# Altium footprint library Leadless.PcbLib: 77 footprints (part 5 of 5)
Each footprint in its own frame and in the unit in brackets; x right, y up, seen from the top. Pads: shape width x height; smd on the part's side, far side on the other; paste and mask are expansions set on the pad; w line width, h text height; cw(c..) or ccw(c..) is an arc to the next point about the centre after c.
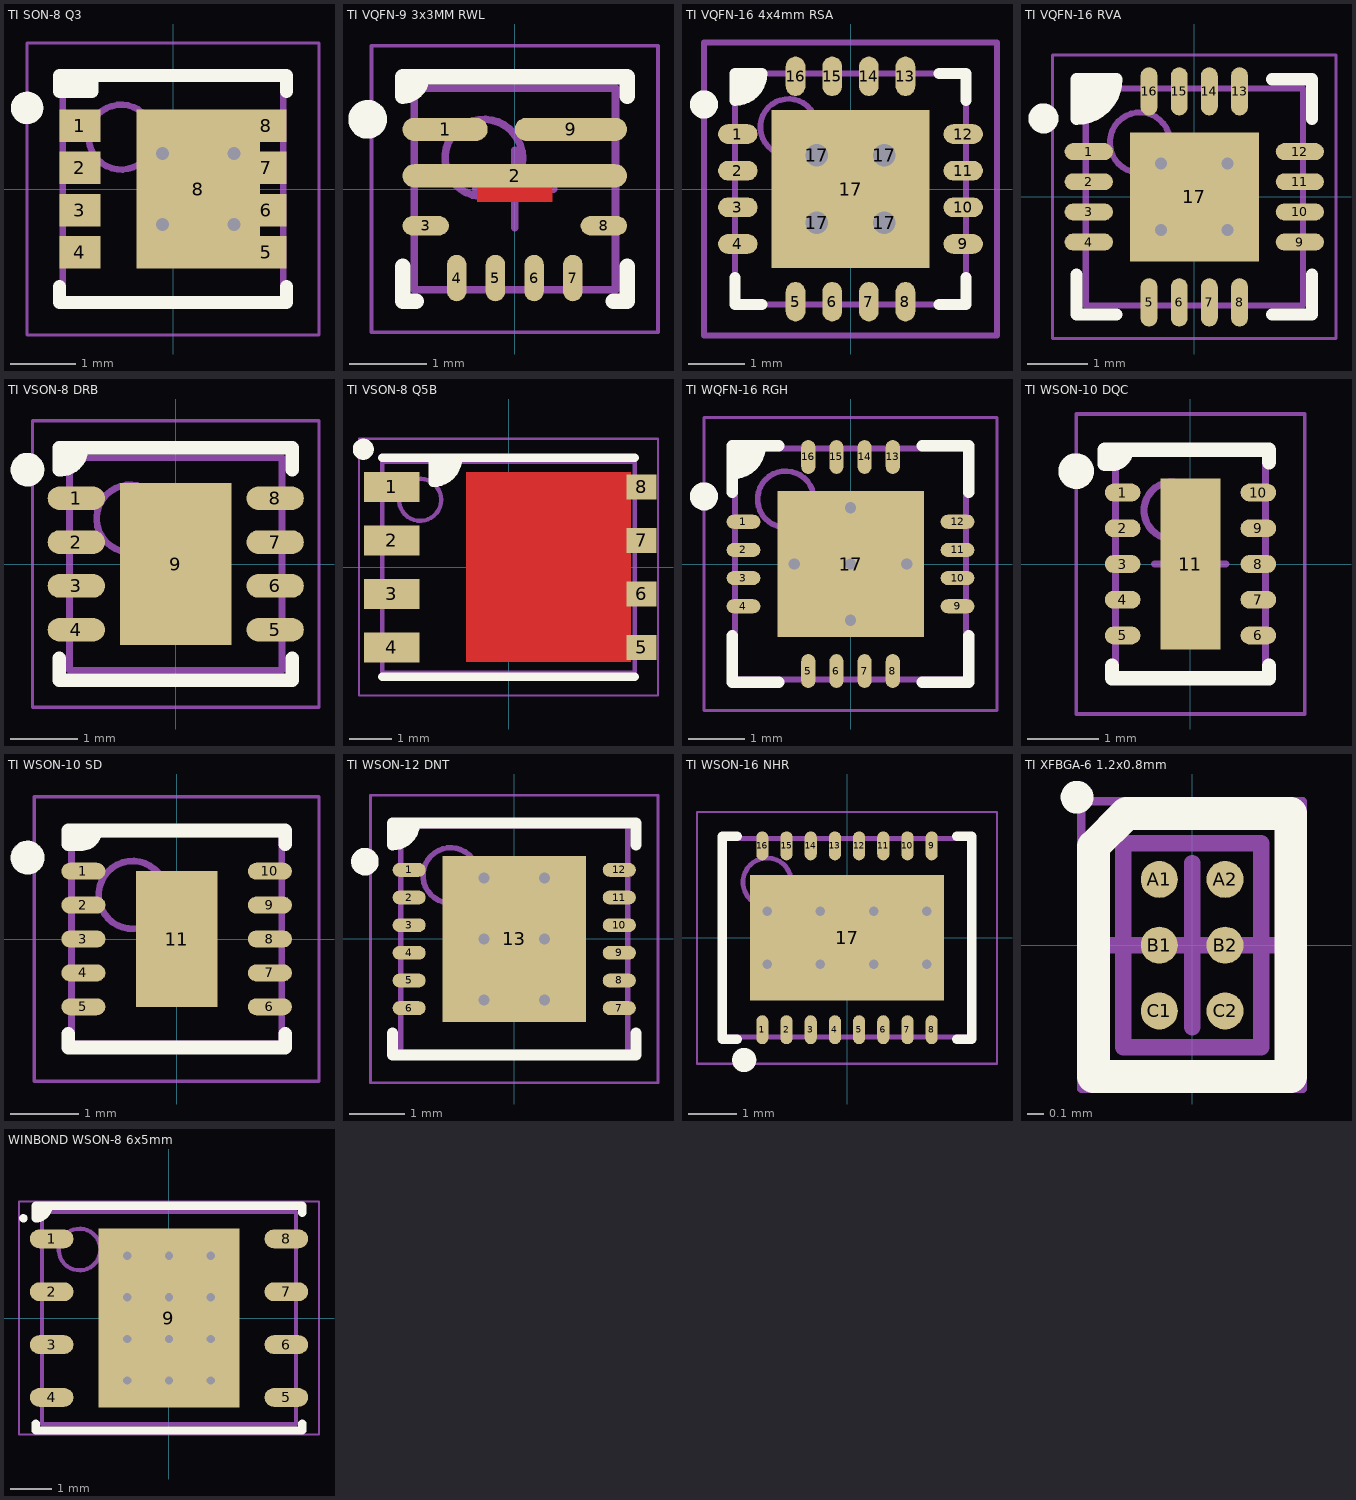
[diagram p4: the footprints below, top view; thin cyan lines are the x and y axes]

## TI SON-8 Q3 [mm] "SON, 8-Leads, Body 3.30x3.30mm, Pitch 0.65mm, Thermal Pad 1.90x2.45mm, IPC Medium Density"
height 1.1
pads (9):
  rect 0.63x0.5 smd paste-3: 1(-1.435,0.975) 2(-1.435,0.325) 3(-1.435,-0.325) 4(-1.435,-0.975) 5(1.435,-0.975) 6(1.435,-0.325) 7(1.435,0.325) 8(1.435,0.975)
  rect 1.9x2.45 smd paste-3: 8(0.39,0)
via -0.16,0.55 diameter 0.5 hole 0.2
via 0.94,0.55 diameter 0.5 hole 0.2
via -0.16,-0.55 diameter 0.5 hole 0.2
via 0.94,-0.55 diameter 0.5 hole 0.2
Top Overlay:
  circle w0.25: c-2.25,1.25 r0.125
  rectangle: -1.75,1.5 -1.25,1.75
  lines w0.2: -1.75,-1.5 -1.75,-1.75 1.75,-1.75 1.75,-1.5 ; -1.25,1.75 -1.25,1.5 -1.75,1.5 -1.75,1.75 1.75,1.75 1.75,1.5
Top Paste:
  rectangle: -0.46,0.125 0.985,1.27
  rectangle: -0.46,-1.27 0.985,-0.125
  rectangle: 1.21,0.82 1.66,1.13
  rectangle: 1.21,-0.48 1.66,-0.17
  region: -1.21,-0.17 -1.66,-0.17 -1.66,-0.48 -1.21,-0.48
  region: -1.21,1.13 -1.66,1.13 -1.66,0.82 -1.21,0.82
  region: -1.21,0.48 -1.66,0.48 -1.66,0.17 -1.21,0.17
  rectangle: 1.21,0.17 1.66,0.48
  region: -1.21,-0.82 -1.66,-0.82 -1.66,-1.13 -1.21,-1.13
  rectangle: 1.21,-1.13 1.66,-0.82
Mechanical 13:
  circle w0.1: c-0.8,0.8 r0.5
  lines w0.1: -1.7,-1.7 -1.7,1.7 1.7,1.7 1.7,-1.7 -1.7,-1.7
Mechanical 15:
  lines w0.05: -2.25,-2.25 -2.25,2.25 2.25,2.25 2.25,-2.25 -2.25,-2.25
  lines w0.1: -0.5,0 0.5,0 ; 0,-0.5 0,0.5
3D body "TI SON-8 Q3.step": height 1.1, standoff 0, extent -1.71,-1.7 1.71,1.7

## TI VQFN-9 3x3MM RWL [mm] "VQFN, 14-Leads, Body 2.50x2.50mm, Pitch 0.50mm/0.47mm, IPC Medium Density"
height 1
pads (9):
  oval 1.1x0.3 smd: 1(-0.9,0.77)
  oval 2.9x0.3 smd: 2(0,0.17)
  oval 0.6x0.25 smd: 3(-1.15,-0.475) 8(1.15,-0.475)
  oval 0.25x0.6 smd: 4(-0.75,-1.15) 5(-0.25,-1.15) 6(0.25,-1.15) 7(0.75,-1.15)
  oval 1.45x0.3 smd: 9(0.725,0.77)
Top Layer:
  rectangle: -0.487,-0.17 0.487,0.1
Top Overlay:
  circle w0.25: c-1.9,0.9 r0.125
  region: -1.2,1.45 -1.45,1.45 -1.45,1.2
  lines w0.2: -1.45,-1 -1.45,-1.45 -1.275,-1.45 ; -1.2,1.45 cw(c-1.45,1.45) -1.45,1.2 -1.45,1.45 1.45,1.45 1.45,1.2 ; 1.275,-1.45 1.45,-1.45 1.45,-1
Mechanical 13:
  circle w0.1: c-0.4,0.4 r0.5
  lines w0.1: -1.3,-1.3 -1.3,1.3 1.3,1.3 1.3,-1.3 -1.3,-1.3
Mechanical 15:
  lines w0.05: -1.85,-1.85 -1.85,1.85 1.85,1.85 1.85,-1.85 -1.85,-1.85
  lines w0.1: -0.5,0 0.5,0 ; 0,-0.5 0,0.5
3D body: height 1, standoff 0.01, extent -1.3,-1.3 1.3,1.3

## TI VQFN-16 4x4mm RSA [mm] "QFN, 16-Leads, Body 4.1x4.1mm (max), Pitch 0.65mm, IPC Medium Density"
height 1
pads (21):
  oval 0.7x0.35 smd: 1(-2,0.975) 2(-2,0.325) 3(-2,-0.325) 4(-2,-0.975) 9(2,-0.975) 10(2,-0.325) 11(2,0.325) 12(2,0.975)
  oval 0.35x0.7 smd: 5(-0.975,-2) 6(-0.325,-2) 7(0.325,-2) 8(0.975,-2) 13(0.975,2) 14(0.325,2) 15(-0.325,2) 16(-0.975,2)
  round 0.8 hole 0.4 unplated: 17(-0.6,-0.6) 17(-0.6,0.6) 17(0.6,-0.6) 17(0.6,0.6)
  rect 2.8x2.8 smd: 17(0,0)
Top Overlay:
  circle w0.25: c-2.6,1.5 r0.125
  region: -2.05,2.05 -1.575,2.05 -1.575,1.925 -1.9,1.6 -2.05,1.6
  lines w0.2: -2.05,-1.575 -2.05,-2.05 -1.575,-2.05 ; 1.575,-2.05 2.05,-2.05 2.05,-1.575 ; 1.575,2.05 2.05,2.05 2.05,1.575 ; -2.05,1.575 ccw(c-2.05,2.05) -1.575,2.05 -2.05,2.05 -2.05,1.575
Mechanical 13:
  circle w0.1: c-1.1,1.1 r0.5
  lines w0.1: -2.05,-2.05 -2.05,2.05 2.05,2.05 2.05,-2.05 -2.05,-2.05
Mechanical 15:
  lines w0.1: -0.5,0 0.5,0 ; 0,-0.5 0,0.5 ; -2.6,-2.6 -2.6,2.6 2.6,2.6 2.6,-2.6 -2.6,-2.6
3D body: height 1, standoff 0.08, extent -2.05,-2.05 2.05,2.05

## TI VQFN-16 RVA [mm] "QFN, 16-Leads, Body 3.50x3.50mm, Pitch 0.50mm, Thermal Pad 2.14x2.14mm, IPC Medium Density"
height 1
pads (17):
  oval 0.8x0.28 smd: 1(-1.75,0.75) 2(-1.75,0.25) 3(-1.75,-0.25) 4(-1.75,-0.75) 9(1.75,-0.75) 10(1.75,-0.25) 11(1.75,0.25) 12(1.75,0.75)
  oval 0.28x0.8 smd: 5(-0.75,-1.75) 6(-0.25,-1.75) 7(0.25,-1.75) 8(0.75,-1.75) 13(0.75,1.75) 14(0.25,1.75) 15(-0.25,1.75) 16(-0.75,1.75)
  rect 2.14x2.14 smd: 17(0,0)
via 0.55,-0.55 diameter 0.5 hole 0.2
via -0.55,-0.55 diameter 0.5 hole 0.2
via 0.55,0.55 diameter 0.5 hole 0.2
via -0.55,0.55 diameter 0.5 hole 0.2
Top Overlay:
  circle w0.25: c-2.5,1.3 r0.125
  region: -1.95,1.95 -1.29,1.95 -1.29,1.885 -1.315,1.757 -1.365,1.637 -1.437,1.529 -1.529,1.437 -1.637,1.365 -1.757,1.315 -1.885,1.29 -1.95,1.29
  lines w0.2: -1.95,-1.29 -1.95,-1.95 -1.29,-1.95 ; 1.29,-1.95 1.95,-1.95 1.95,-1.29 ; 1.29,1.95 1.95,1.95 1.95,1.29 ; -1.95,1.95 -1.29,1.95 ; -1.95,1.95 -1.29,1.95 ; -1.95,1.95 -1.95,1.29 ccw(c-1.95,1.95) -1.29,1.95
Mechanical 13:
  circle w0.1: c-0.9,0.9 r0.5
  lines w0.1: -1.8,-1.8 1.8,-1.8 1.8,1.8 -1.8,1.8 -1.8,-1.8
Mechanical 15:
  lines w0.05: -2.35,-2.35 2.35,-2.35 2.35,2.35 -2.35,2.35 -2.35,-2.35
  lines w0.1: -0.5,0 0.5,0 ; 0,-0.5 0,0.5
3D body: height 1, standoff 0.01, extent -1.8,-1.8 1.8,1.8

## TI VSON-8 DRB [mm] "SON, 8-Leads, Body 3.00x3.00mm, Pitch 0.65mm, Thermal Pad 1.65x2.40mm, IPC Medium Density"
height 1
pads (9):
  oval 0.85x0.35 smd: 1(-1.475,0.975) 2(-1.475,0.325) 3(-1.475,-0.325) 4(-1.475,-0.975) 5(1.475,-0.975) 6(1.475,-0.325) 7(1.475,0.325) 8(1.475,0.975)
  rect 1.65x2.4 smd: 9(0,0)
Top Overlay:
  circle w0.25: c-2.2,1.4 r0.125
  region: -1.725,1.725 -1.725,1.4 -1.6,1.4 -1.4,1.6 -1.4,1.725
  lines w0.2: -1.725,-1.4 -1.725,-1.725 1.725,-1.725 1.725,-1.4 ; -1.4,1.7 cw(c-1.7,1.7) -1.7,1.4 -1.725,1.4 -1.725,1.725 1.725,1.725 1.725,1.4
Mechanical 13:
  circle w0.1: c-0.675,0.675 r0.5
  lines w0.1: -1.575,-1.575 1.575,-1.575 1.575,1.575 -1.575,1.575 -1.575,-1.575
Mechanical 15:
  lines w0.05: -2.125,-2.125 2.125,-2.125 2.125,2.125 -2.125,2.125 -2.125,-2.125
  lines w0.1: -0.5,0 0.5,0 ; 0,-0.5 0,0.5
3D body: height 1, standoff 0, extent -1.575,-1.575 1.575,1.575

## TI VSON-8 Q5B [mm] "VSON, 8-Leads, Body 6x5mm, Pitch 1.27mm, Thermal Pad 1.65x2.38mm, IPC Medium Density"
height 1
pads (8):
  rect 1.32x0.71 smd: 1(-2.77,1.905) 2(-2.77,0.635) 3(-2.77,-0.635) 4(-2.77,-1.905)
  rect 0.71x0.59 smd: 5(3.161,-1.905) 6(3.161,-0.635) 7(3.161,0.635) 8(3.161,1.905)
Top Layer:
  region: -1,-2.25 2.9,-2.25 2.9,2.25 -1,2.25
Top Overlay:
  circle w0.25: c-3.45,2.8 r0.125
  region: -1.8,2.6 -1.2,2.6 -1.2,2.481 -1.291,2.26 -1.46,2.091 -1.681,2 -1.8,2
  lines w0.2: -3,-2.6 3,-2.6 ; -3,2.6 3,2.6 ; -1.8,2.6 -1.8,2 ccw(c-1.8,2.6) -1.2,2.6
Top Paste:
  rectangle: 0.997,-1.941 2.291,-1.196
  rectangle: 0.997,-0.895 2.291,-0.15
  rectangle: -0.647,0.15 0.647,0.895
  rectangle: 0.997,0.15 2.291,0.895
  rectangle: -0.647,-1.941 0.647,-1.196
  rectangle: 0.997,1.196 2.291,1.941
  rectangle: -0.647,-0.895 0.647,-0.15
  rectangle: -0.647,1.196 0.647,1.941
Mechanical 13:
  circle w0.1: c-2.1,1.6 r0.5
  lines w0.1: -3,-2.5 -3,2.5 3,2.5 3,-2.5 -3,-2.5
Mechanical 15:
  lines w0.05: -3.55,-3.05 -3.55,3.05 3.55,3.05 3.55,-3.05 -3.55,-3.05
  lines w0.1: -0.5,0 0.5,0 ; 0,-0.5 0,0.5
3D body: height 1, standoff 0.01, extent -3,-2.5 3,2.5

## TI WQFN-16 RGH [mm] "QFN, 16-Leads, Body 4.00x4.00mm, Pitch 0.50mm, Thermal Pad 2.60x2.60mm, IPC Medium Density"
height 0.8
pads (17):
  oval 0.6x0.25 smd: 1(-1.9,0.75) 2(-1.9,0.25) 3(-1.9,-0.25) 4(-1.9,-0.75) 9(1.9,-0.75) 10(1.9,-0.25) 11(1.9,0.25) 12(1.9,0.75)
  oval 0.25x0.6 smd: 5(-0.75,-1.9) 6(-0.25,-1.9) 7(0.25,-1.9) 8(0.75,-1.9) 13(0.75,1.9) 14(0.25,1.9) 15(-0.25,1.9) 16(-0.75,1.9)
  rect 2.6x2.6 smd paste-2: 17(0,0)
via 0,0 diameter 0.5 hole 0.2
via 1,0 diameter 0.5 hole 0.2
via -1,0 diameter 0.5 hole 0.2
via 0,1 diameter 0.5 hole 0.2
via 0,-1 diameter 0.5 hole 0.2
Top Overlay:
  circle w0.25: c-2.6,1.2 r0.125
  region: -1.6,2.1 -2.1,2.1 -2.1,1.637 -1.862,1.637 -1.6,1.9
  lines w0.2: -2.1,-1.275 -2.1,-2.1 -1.275,-2.1 ; -2.1,1.275 -2.1,2.1 -1.275,2.1 ; -2.1,1.6 ccw(c-2.1,2.1) -1.6,2.1 ; 1.275,-2.1 2.1,-2.1 2.1,-1.275 ; 1.275,2.1 2.1,2.1 2.1,1.275
Top Paste:
  region: -1.15,-0.1 -1.15,-1.15 -0.1,-1.15 -0.1,-0.1
  region: -0.1,1.15 -1.15,1.15 -1.15,0.1 -0.1,0.1
  region: 1.15,0.1 1.15,1.15 0.1,1.15 0.1,0.1
  rectangle: 0.1,-1.15 1.15,-0.1
Mechanical 13:
  circle w0.1: c-1.15,1.15 r0.5
  lines w0.1: -2.05,-2.05 -2.05,2.05 2.05,2.05 2.05,-2.05 -2.05,-2.05
Mechanical 15:
  lines w0.05: -2.6,-2.6 -2.6,2.6 2.6,2.6 2.6,-2.6 -2.6,-2.6
  lines w0.1: -0.5,0 0.5,0 ; 0,-0.5 0,0.5
3D body: height 0.8, standoff 0, extent -2.05,-2.05 2.05,2.05

## TI WSON-10 DQC [mm] "WSON, 10-Leads, Body 2.00x3.00mm, Pitch 0.50mm, Thermal Pad 0.84x2.40mm, IPC Medium Density"
height 0.8
pads (11):
  oval 0.5x0.25 smd: 1(-0.95,1) 2(-0.95,0.5) 3(-0.95,0) 4(-0.95,-0.5) 5(-0.95,-1) 6(0.95,-1) 7(0.95,-0.5) 8(0.95,0) 9(0.95,0.5) 10(0.95,1)
  rect 0.84x2.4 smd: 11(0,0)
Top Overlay:
  circle w0.25: c-1.6,1.3 r0.125
  lines w0.2: -1.1,-1.425 -1.1,-1.6 1.1,-1.6 1.1,-1.425 ; -0.9,1.6 cw(c-1.1,1.6) -1.1,1.4 -1.2,1.4 -1.2,1.6 1.1,1.6 1.1,1.425
Mechanical 13:
  circle w0.1: c-0.25,0.75 r0.4
  lines w0.1: -1.05,-1.55 1.05,-1.55 1.05,1.55 -1.05,1.55 -1.05,-1.55
Mechanical 15:
  lines w0.05: -1.6,-2.1 1.6,-2.1 1.6,2.1 -1.6,2.1 -1.6,-2.1
  lines w0.1: -0.5,0 0.5,0 ; 0,-0.5 0,0.5
3D body: height 0.8, standoff 0.08, extent -1.05,-1.55 1.05,1.55

## TI WSON-10 SD [mm] "DFN, 10-Leads, Body 3.00x3.00mm, Pitch 0.50mm, Thermal Pad 1.20x2.00mm, IPC Medium Density"
height 0.8
pads (11):
  oval 0.65x0.25 smd: 1(-1.375,1) 2(-1.375,0.5) 3(-1.375,0) 4(-1.375,-0.5) 5(-1.375,-1) 6(1.375,-1) 7(1.375,-0.5) 8(1.375,0) 9(1.375,0.5) 10(1.375,1)
  rect 1.2x2 smd: 11(0,0)
Top Overlay:
  circle w0.25: c-2.2,1.2 r0.125
  lines w0.2: -1.6,-1.4 -1.6,-1.6 1.6,-1.6 1.6,-1.4 ; -1.2,1.6 cw(c-1.4,1.6) -1.4,1.4 -1.6,1.4 -1.6,1.6 1.6,1.6 1.6,1.4
Mechanical 13:
  circle w0.1: c-0.65,0.65 r0.5
  lines w0.1: -1.55,-1.55 1.55,-1.55 1.55,1.55 -1.55,1.55 -1.55,-1.55
Mechanical 15:
  lines w0.05: -2.1,-2.1 2.1,-2.1 2.1,2.1 -2.1,2.1 -2.1,-2.1
  lines w0.1: -0.5,0 0.5,0 ; 0,-0.5 0,0.5
3D body: height 0.8, standoff 0, extent -1.55,-1.55 1.55,1.55

## TI WSON-12 DNT [mm] "WSON, 12-Leads, Body 4.00x4.00mm, Pitch 0.50mm, Thermal Pad 2.60x3.00mm, IPC Medium Density"
height 0.8
pads (13):
  oval 0.6x0.25 smd: 1(-1.9,1.25) 2(-1.9,0.75) 3(-1.9,0.25) 4(-1.9,-0.25) 5(-1.9,-0.75) 6(-1.9,-1.25) 7(1.9,-1.25) 8(1.9,-0.75) 9(1.9,-0.25) 10(1.9,0.25) 11(1.9,0.75) 12(1.9,1.25)
  rect 2.6x3 smd: 13(0,0)
via -0.55,1.1 diameter 0.5 hole 0.2
via 0.55,1.1 diameter 0.5 hole 0.2
via -0.55,0 diameter 0.5 hole 0.2
via 0.55,0 diameter 0.5 hole 0.2
via -0.55,-1.1 diameter 0.5 hole 0.2
via 0.55,-1.1 diameter 0.5 hole 0.2
Top Overlay:
  circle w0.25: c-2.7,1.4 r0.125
  region: -1.8,2.1 -2.2,2.1 -2.2,1.7 -2,1.7 -1.8,1.9
  lines w0.2: -2.2,-1.7 -2.2,-2.1 2.2,-2.1 2.2,-1.7 ; -1.8,2.1 cw(c-2.2,2.1) -2.2,1.7 -2.2,2.1 2.2,2.1 2.2,1.7
Mechanical 13:
  circle w0.1: c-1.15,1.15 r0.5
  lines w0.1: -2.05,-2.05 -2.05,2.05 2.05,2.05 2.05,-2.05 -2.05,-2.05
Mechanical 15:
  lines w0.05: -2.6,-2.6 -2.6,2.6 2.6,2.6 2.6,-2.6 -2.6,-2.6
  lines w0.1: -0.5,0 0.5,0 ; 0,-0.5 0,0.5
3D body: height 0.8, standoff 0, extent -2.05,-2.05 2.05,2.05

## TI WSON-16 NHR [mm] "WSON, 16-Leads, Body 5.00x4.00mm, Pitch 0.50mm, Thermal Pad 4.00x2.60mm, IPC Medium Density"
height 0.8
pads (17):
  oval 0.25x0.6 smd: 1(-1.75,-1.9) 2(-1.25,-1.9) 3(-0.75,-1.9) 4(-0.25,-1.9) 5(0.25,-1.9) 6(0.75,-1.9) 7(1.25,-1.9) 8(1.75,-1.9) 9(1.75,1.9) 10(1.25,1.9) 11(0.75,1.9) 12(0.25,1.9) 13(-0.25,1.9) 14(-0.75,1.9) 15(-1.25,1.9) 16(-1.75,1.9)
  rect 4x2.6 smd: 17(0,0)
via -1.65,0.55 diameter 0.5 hole 0.2
via -0.55,0.55 diameter 0.5 hole 0.2
via 0.55,0.55 diameter 0.5 hole 0.2
via 1.65,0.55 diameter 0.5 hole 0.2
via -1.65,-0.55 diameter 0.5 hole 0.2
via -0.55,-0.55 diameter 0.5 hole 0.2
via 0.55,-0.55 diameter 0.5 hole 0.2
via 1.65,-0.55 diameter 0.5 hole 0.2
Top Overlay:
  circle w0.25: c-2.125,-2.525 r0.125
  lines w0.2: -2.275,-2.1 -2.575,-2.1 -2.575,2.1 -2.275,2.1 ; 2.275,-2.1 2.575,-2.1 2.575,2.1 2.275,2.1
Mechanical 13:
  circle w0.1: c-1.65,1.15 r0.5
  lines w0.1: -2.55,-2.05 -2.55,2.05 2.55,2.05 2.55,-2.05 -2.55,-2.05
Mechanical 15:
  lines w0.05: -3.1,-2.6 -3.1,2.6 3.1,2.6 3.1,-2.6 -3.1,-2.6
  lines w0.1: -0.5,0 0.5,0 ; 0,-0.5 0,0.5
3D body: height 0.8, standoff 0, extent -2.55,-2.05 2.55,2.05

## TI XFBGA-6 1.2x0.8mm [mm] "BGA, 6-Leads, Body 0.8x1.22mmx0.425mm, Pitch 0.40mm"
height 0.425
pads (6):
  round 0.225 smd: A1(-0.2,0.4) A2(0.2,0.4) B1(-0.2,0) B2(0.2,0) C1(-0.2,-0.4) C2(0.2,-0.4)
Top Overlay:
  circle w0.1: c-0.7,0.9 r0.05
  lines w0.2: -0.6,-0.8 0.6,-0.8 0.6,0.8 -0.4,0.8 -0.6,0.6 -0.6,-0.8
Mechanical 13:
  lines w0.1: -0.42,-0.62 -0.42,0.62 0.42,0.62 0.42,-0.62 -0.42,-0.62
Mechanical 15:
  lines w0.05: -0.675,-0.875 -0.675,0.875 0.675,0.875 0.675,-0.875 -0.675,-0.875
  lines w0.1: -0.5,0 0.5,0 ; 0,-0.5 0,0.5
3D body: height 0.24, standoff -0.02, extent -0.325,0.275 -0.075,0.525
3D body: height 0.24, standoff -0.02, extent 0.075,0.275 0.325,0.525
3D body: height 0.24, standoff -0.02, extent 0.075,-0.125 0.325,0.125
3D body: height 0.24, standoff -0.02, extent -0.325,-0.125 -0.075,0.125
3D body: height 0.24, standoff -0.02, extent -0.325,-0.525 -0.075,-0.275
3D body: height 0.24, standoff -0.02, extent 0.075,-0.525 0.325,-0.275
3D body: height 0.43, standoff 0.19, extent -0.42,-0.62 0.42,0.62

## WINBOND WSON-8 6x5mm [mm] "SON, 8-Leads, Body 5.00x6.00mm, Pitch 1.27mm, Thermal Pad 4.30x3.40mm, IPC Medium Density"
height 0.8
pads (9):
  oval 1.05x0.45 smd: 1(-2.82,1.905) 2(-2.82,0.635) 3(-2.82,-0.635) 4(-2.82,-1.905) 5(2.82,-1.905) 6(2.82,-0.635) 7(2.82,0.635) 8(2.82,1.905)
  rect 3.4x4.3 smd paste-1.7 mask+0: 9(0,0)
via -1,1.5 diameter 0.5 hole 0.2
via 0,1.5 diameter 0.5 hole 0.2
via 1,1.5 diameter 0.5 hole 0.2
via -1,0.5 diameter 0.5 hole 0.2
via 0,0.5 diameter 0.5 hole 0.2
via 1,0.5 diameter 0.5 hole 0.2
via -1,-0.5 diameter 0.5 hole 0.2
via 0,-0.5 diameter 0.5 hole 0.2
via 1,-0.5 diameter 0.5 hole 0.2
via -1,-1.5 diameter 0.5 hole 0.2
via 0,-1.5 diameter 0.5 hole 0.2
via 1,-1.5 diameter 0.5 hole 0.2
Top Overlay:
  circle w0.1: c-3.5,2.4 r0.05
  region: -3.2,2.4 -3.14,2.4 -3.03,2.446 -2.946,2.53 -2.9,2.64 -2.9,2.7 -3.2,2.7
  lines w0.2: -3.2,-2.53 -3.2,-2.7 3.2,-2.7 3.2,-2.53 ; -2.9,2.7 cw(c-3.2,2.7) -3.2,2.4 ; 3.2,2.53 3.2,2.7 -3.2,2.7 -3.2,2.4 ; -3.2,2.4 -3.2,2.4
Top Paste:
  rectangle: -1.595,0.815 -0.665,2.045
  rectangle: -1.595,-0.615 -0.665,0.615
  rectangle: -1.595,-2.045 -0.665,-0.815
  rectangle: -0.465,0.815 0.465,2.045
  rectangle: -0.465,-0.615 0.465,0.615
  rectangle: -0.465,-2.045 0.465,-0.815
  rectangle: 0.665,0.815 1.595,2.045
  rectangle: 0.665,-0.615 1.595,0.615
  rectangle: 0.665,-2.045 1.595,-0.815
Mechanical 13:
  circle w0.1: c-2.15,1.65 r0.5
  lines w0.1: -3.05,-2.55 -3.05,2.55 3.05,2.55 3.05,-2.55 -3.05,-2.55
Mechanical 15:
  lines w0.05: -3.605,-2.8 -3.605,2.8 3.605,2.8 3.605,-2.8 -3.605,-2.8
  lines w0.1: -0.5,0 0.5,0 ; 0,-0.5 0,0.5
3D body: height 0.8, standoff 0, extent -3.05,-2.55 3.05,2.55